# Altium integrated library NSC ADC.IntLib: 208 symbols (part 3 of 7)
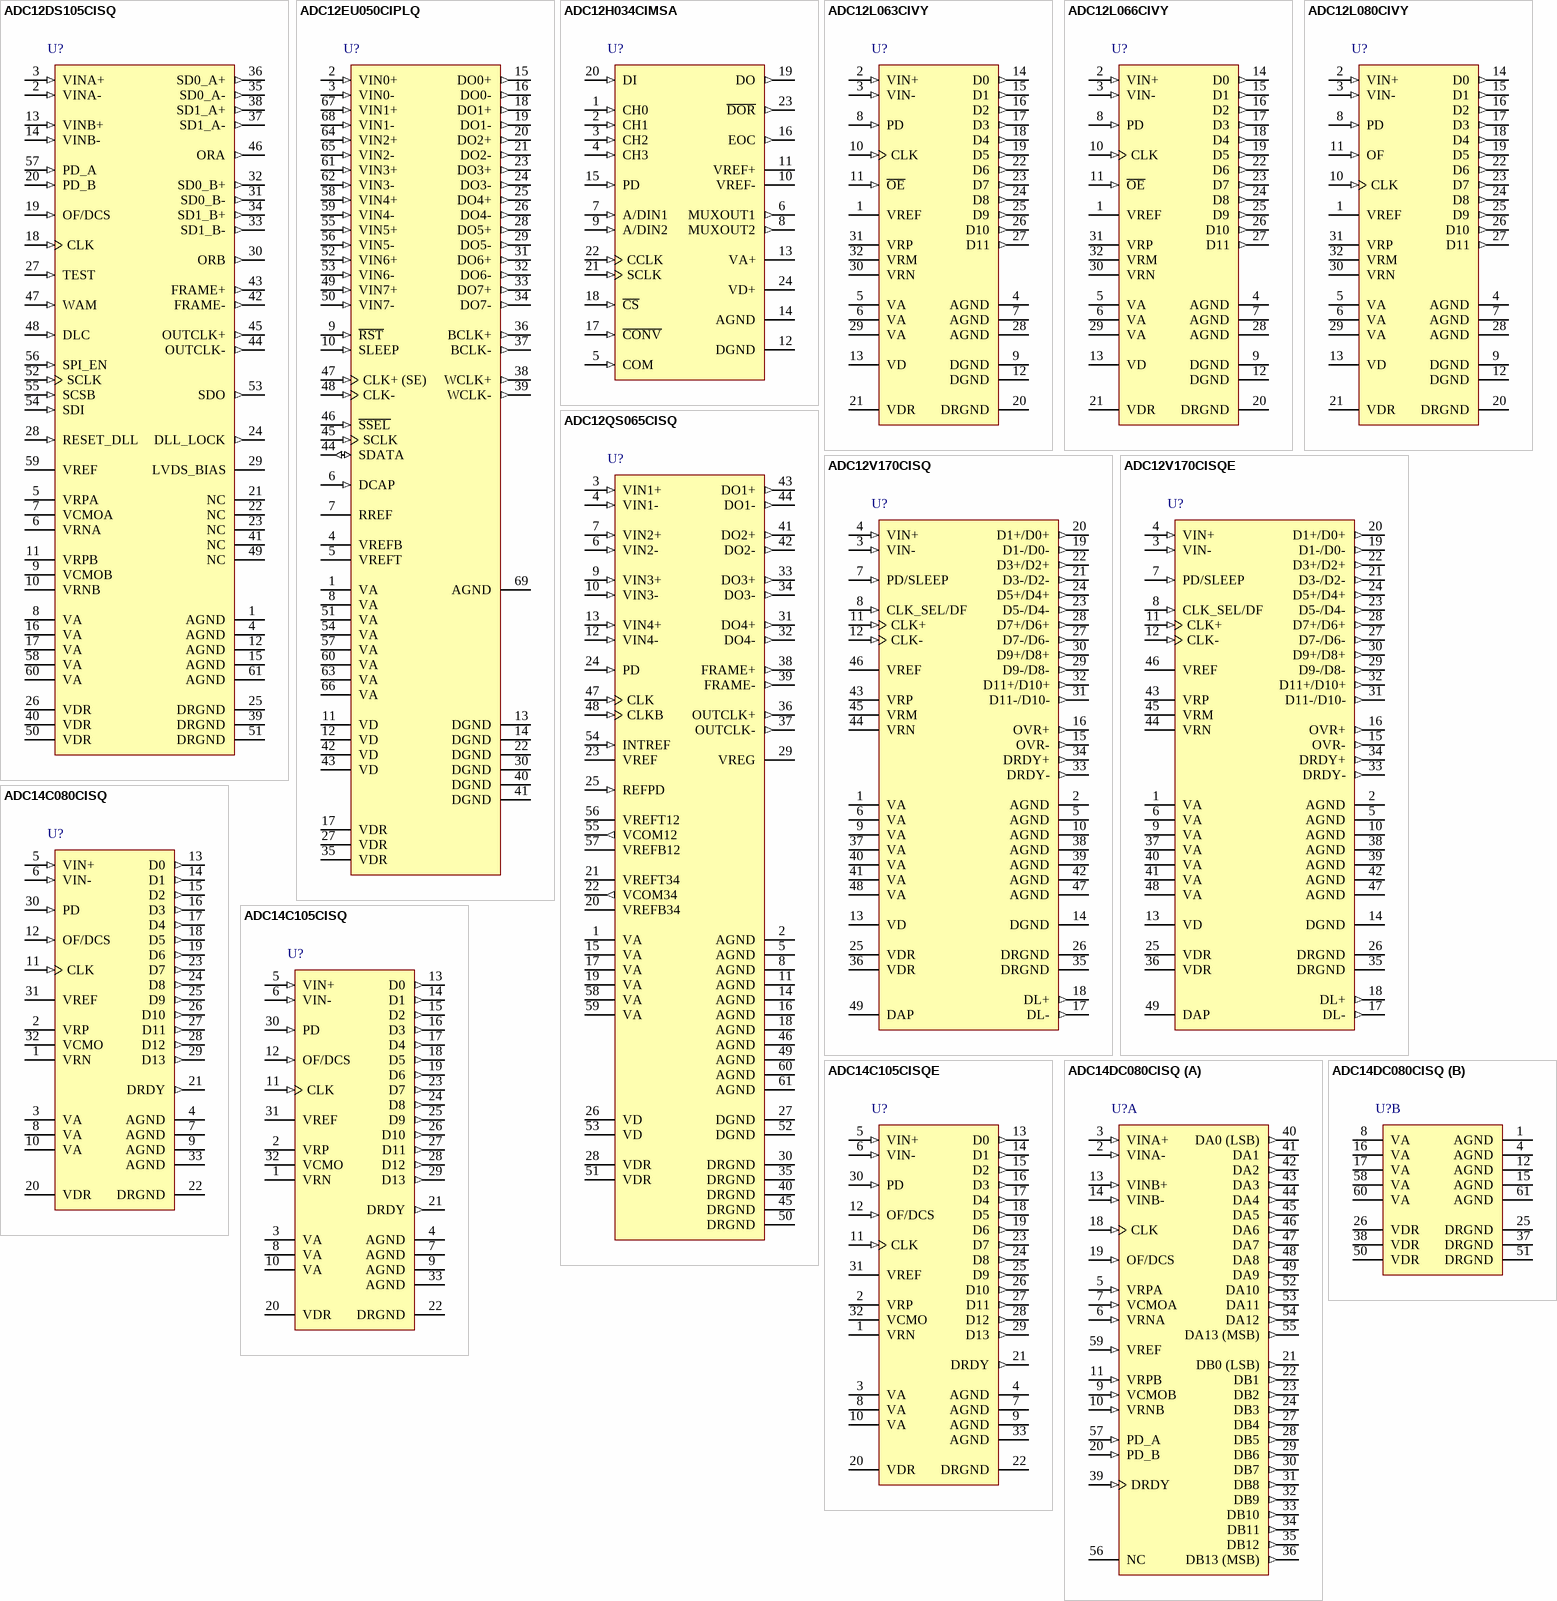
[diagram p19: symbols ADC12DS105CISQ to ADC14DC080CISQ]

## ADC12L063CIVY
designator U?
12-Bit, 62 MSPS, 354mW A/D Converter with Internal Sample-and-Hold; PartNumber: ADC12L063CIVY; Manufacturer: National Semiconductor; CompType: ADC IC; PackageTopMarking: NSUZXYTT*ADC12L0*63CIVY; PowerWise: N; Published: 4-Dec-2008; DatasheetVersion: Jul-2001; PackageVersion: revE, Dec-1999; PackageReference: VBE32A; Publisher: Altium Limited; PackageDescription: LQFP, JEDEC, Metric, 7 x 7 x 1.4mm, 32 Lead; RoHS: O; PinCount: 32; DigiKeyPartNumber: ADC12L063CIVY-ND; ComponentLink1Description: ADC12L063 Datasheet; ComponentLink1URL: http://www.national.com/ds/AD/ADC12L063.pdf; ComponentLink2Description: ADC12L063 Web Page; ComponentLink2URL: http://www.national.com/pf/AD/ADC12L063.html; ComponentLink3Description: VBE32A Package Page; ComponentLink3URL: http://www.national.com/packaging/folders/vbe32a.html
footprint VBE32A_N (Thin QFP, 32-Leads, Body 7x7mm, Pitch 0.8mm, IPC Medium Density)
footprint VBE32A_L (Thin QFP, 32-Leads, Body 7x7mm, Pitch 0.8mm, IPC High Density)
footprint VBE32A_M (Thin QFP, 32-Leads, Body 7x7mm, Pitch 0.8mm, IPC Low Density)
pins: 1 VREF (power), 2 VIN+ (in), 3 VIN- (in), 4 AGND (power), 5 VA (power), 6 VA (power), 7 AGND (power), 8 PD (in), 9 DGND (power), 10 CLK (in), 11 ~{OE} (in), 12 DGND (power), 13 VD (power), 14 D0 (out), 15 D1 (out), 16 D2 (out), 17 D3 (out), 18 D4 (out), 19 D5 (out), 20 DRGND (power), 21 VDR (power), 22 D6 (out), 23 D7 (out), 24 D8 (out), 25 D9 (out), 26 D10 (out), 27 D11 (out), 28 AGND (power), 29 VA (power), 30 VRN, 31 VRP, 32 VRM

## ADC12L066CIVY
designator U?
12-Bit, 66 MSPS, 450 MHz Bandwidth A/D Converter with Internal Sample-and-Hold; PartNumber: ADC12L066CIVY; Manufacturer: National Semiconductor; CompType: ADC IC; PackageTopMarking: NSUZXYTT*ADC12L0*66CIVY; PowerWise: N; Published: 4-Dec-2008; DatasheetVersion: Mar-2002; PackageVersion: revE, Dec-1999; PackageReference: VBE32A; Publisher: Altium Limited; PackageDescription: LQFP, JEDEC, Metric, 7 x 7 x 1.4mm, 32 Lead; RoHS: Y; PinCount: 32; DigiKeyPartNumber: ADC12L066CIVY-ND; ComponentLink1Description: ADC12L066 Datasheet; ComponentLink1URL: http://www.national.com/ds/AD/ADC12L066.pdf; ComponentLink2Description: ADC12L066 Web Page; ComponentLink2URL: http://www.national.com/pf/AD/ADC12L066.html; ComponentLink3Description: VBE32A Package Page; ComponentLink3URL: http://www.national.com/packaging/folders/vbe32a.html
footprint VBE32A_N (Thin QFP, 32-Leads, Body 7x7mm, Pitch 0.8mm, IPC Medium Density)
footprint VBE32A_L (Thin QFP, 32-Leads, Body 7x7mm, Pitch 0.8mm, IPC High Density)
footprint VBE32A_M (Thin QFP, 32-Leads, Body 7x7mm, Pitch 0.8mm, IPC Low Density)
pins: 1 VREF (power), 2 VIN+ (in), 3 VIN- (in), 4 AGND (power), 5 VA (power), 6 VA (power), 7 AGND (power), 8 PD (in), 9 DGND (power), 10 CLK (in), 11 ~{OE} (in), 12 DGND (power), 13 VD (power), 14 D0 (out), 15 D1 (out), 16 D2 (out), 17 D3 (out), 18 D4 (out), 19 D5 (out), 20 DRGND (power), 21 VDR (power), 22 D6 (out), 23 D7 (out), 24 D8 (out), 25 D9 (out), 26 D10 (out), 27 D11 (out), 28 AGND (power), 29 VA (power), 30 VRN, 31 VRP, 32 VRM

## ADC12L080CIVY
designator U?
12-Bit, 80 MSPS, 450 MHz Bandwidth A/D Converter with Internal Reference; PartNumber: ADC12L080CIVY; Manufacturer: National Semiconductor; CompType: ADC IC; PackageTopMarking: NSUZXYTT*ADC12L0*80CIVY; PowerWise: N; Published: 4-Dec-2008; DatasheetVersion: Oct-2004; PackageVersion: revE, Dec-1999; PackageReference: VBE32A; Publisher: Altium Limited; PackageDescription: LQFP, JEDEC, Metric, 7 x 7 x 1.4mm, 32 Lead; RoHS: Y; PinCount: 32; DigiKeyPartNumber: ADC12L080CIVY-ND; ComponentLink1Description: ADC12L080 Datasheet; ComponentLink1URL: http://www.national.com/ds/AD/ADC12L080.pdf; ComponentLink2Description: ADC12L080 Web Page; ComponentLink2URL: http://www.national.com/pf/AD/ADC12L080.html; ComponentLink3Description: VBE32A Package Page; ComponentLink3URL: http://www.national.com/packaging/folders/vbe32a.html
footprint VBE32A_N (Thin QFP, 32-Leads, Body 7x7mm, Pitch 0.8mm, IPC Medium Density)
footprint VBE32A_L (Thin QFP, 32-Leads, Body 7x7mm, Pitch 0.8mm, IPC High Density)
footprint VBE32A_M (Thin QFP, 32-Leads, Body 7x7mm, Pitch 0.8mm, IPC Low Density)
pins: 1 VREF (power), 2 VIN+ (in), 3 VIN- (in), 4 AGND (power), 5 VA (power), 6 VA (power), 7 AGND (power), 8 PD (in), 9 DGND (power), 10 CLK (in), 11 OF (in), 12 DGND (power), 13 VD (power), 14 D0 (out), 15 D1 (out), 16 D2 (out), 17 D3 (out), 18 D4 (out), 19 D5 (out), 20 DRGND (power), 21 VDR (power), 22 D6 (out), 23 D7 (out), 24 D8 (out), 25 D9 (out), 26 D10 (out), 27 D11 (out), 28 AGND (power), 29 VA (power), 30 VRN, 31 VRP, 32 VRM

## ADC12QS065CISQ
designator U?
Quad 12-Bit 65 MSPS A/D Converter with LVDS Serialized Outputs; PartNumber: ADC12QS065CISQ; Manufacturer: National Semiconductor; CompType: ADC IC; PackageTopMarking: NS*UZXYTT*12QS065*CISQ; PowerWise: Y; Published: 4-Dec-2008; DatasheetVersion: Nov-2006; PackageVersion: revA, Jun-2005; PackageReference: SQA60A; Publisher: Altium Limited; PackageDescription: LLP, Quad, 9 x 9 x 0.8mm, 60 Lead, 0.5mm Pitch, No Pullback; RoHS: Y; PinCount: 60; DigiKeyPartNumber: ADC12QS065CISQCT-ND; ComponentLink1Description: ADC12QS065 Datasheet; ComponentLink1URL: http://www.national.com/ds/AD/ADC12QS065.pdf; ComponentLink2Description: ADC12QS065 Web Page; ComponentLink2URL: http://www.national.com/pf/AD/ADC12QS065.html; ComponentLink3Description: SQA60A Package Page; ComponentLink3URL: http://www.national.com/packaging/folders/sqa60a.html
footprint SQA60A (QFN, 60-Leads, Body 9x9mm, Pitch 0.5mm, NSC Recommended)
pins: 1 VA (power), 2 AGND (power), 3 VIN1+ (in), 4 VIN1- (in), 5 AGND (power), 6 VIN2- (in), 7 VIN2+ (in), 8 AGND (power), 9 VIN3+ (in), 10 VIN3- (in), 11 AGND (power), 12 VIN4- (in), 13 VIN4+ (in), 14 AGND (power), 15 VA (power), 16 AGND (power), 17 VA (power), 18 AGND (power), 19 VA (power), 20 VREFB34 (power), 21 VREFT34 (power), 22 VCOM34 (out), 23 VREF (power), 24 PD (in), 25 REFPD (in), 26 VD (power), 27 DGND (power), 28 VDR (power), 29 VREG, 30 DRGND (power), 31 DO4+ (out), 32 DO4- (out), 33 DO3+ (out), 34 DO3- (out), 35 DRGND (power), 36 OUTCLK+ (out), 37 OUTCLK- (out), 38 FRAME+ (out), 39 FRAME- (out), 40 DRGND (power), 41 DO2+ (out), 42 DO2- (out), 43 DO1+ (out), 44 DO1- (out), 45 DRGND (power), 46 AGND (power), 47 CLK (in), 48 CLKB (in), 49 AGND (power), 50 DRGND (power), 51 VDR (power), 52 DGND (power), 53 VD (power), 54 INTREF (in), 55 VCOM12 (out), 56 VREFT12 (power), 57 VREFB12 (power), 58 VA (power), 59 VA (power), 60 AGND (power), 61 AGND (power)

## ADC12V170CISQ
designator U?
12-Bit, 170 MSPS, 1.1 GHz Bandwidth A/D Converter with LVDS Outputs; PartNumber: ADC12V170CISQ; Manufacturer: National Semiconductor; CompType: ADC IC; PackageTopMarking: NS*UZXYTT*ADC12V170; PowerWise: Y; Published: 4-Dec-2008; DatasheetVersion: May-2007; PackageVersion: revA, May-2003; PackageReference: SQA48A; Publisher: Altium Limited; PackageDescription: LLP, Plastic, Quad, 7 x 7 x 0.8mm Body, 48 Lead, 0.5mm Pitch, No Pullback; RoHS: O; PinCount: 48; DigiKeyPartNumber: ADC12V170CISQCT-ND; Code_JEDEC: MO-220-WKKD-2; ComponentLink1Description: ADC12V170 Datasheet; ComponentLink1URL: http://www.national.com/ds/AD/ADC12V170.pdf; ComponentLink2Description: ADC12V170 Web Page; ComponentLink2URL: http://www.national.com/pf/AD/ADC12V170.html; ComponentLink3Description: SQA48A Package Page; ComponentLink3URL: http://www.national.com/packaging/folders/sqa48a.html
footprint SQA48A (QFN, 48-Leads, Body 7x7mm, Pitch 0.5mm, NSC Recommended)
pins: 1 VA (power), 2 AGND (power), 3 VIN- (in), 4 VIN+ (in), 5 AGND (power), 6 VA (power), 7 PD/SLEEP (in), 8 CLK_SEL/DF (in), 9 VA (power), 10 AGND (power), 11 CLK+ (in), 12 CLK- (in), 13 VD (power), 14 DGND (power), 15 OVR- (out), 16 OVR+ (out), 17 DL- (out), 18 DL+ (out), 19 D1-/D0- (out), 20 D1+/D0+ (out), 21 D3-/D2- (out), 22 D3+/D2+ (out), 23 D5-/D4- (out), 24 D5+/D4+ (out), 25 VDR (power), 26 DRGND (power), 27 D7-/D6- (out), 28 D7+/D6+ (out), 29 D9-/D8- (out), 30 D9+/D8+ (out), 31 D11-/D10- (out), 32 D11+/D10+ (out), 33 DRDY- (out), 34 DRDY+ (out), 35 DRGND (power), 36 VDR (power), 37 VA (power), 38 AGND (power), 39 AGND (power), 40 VA (power), 41 VA (power), 42 AGND (power), 43 VRP, 44 VRN, 45 VRM, 46 VREF (power), 47 AGND (power), 48 VA (power), 49 DAP (power)

## ADC12V170CISQE
designator U?
12-Bit, 170 MSPS, 1.1 GHz Bandwidth A/D Converter with LVDS Outputs; PartNumber: ADC12V170CISQE; Manufacturer: National Semiconductor; CompType: ADC IC; PackageTopMarking: NS*UZXYTT*12V170SQE; Published: 4-Dec-2008; DatasheetVersion: Aug-2007; PackageVersion: revA, May-2003; PackageReference: SQA48A; Publisher: Altium Limited; PackageDescription: LLP, Plastic, Quad, 7 x 7 x 0.8mm Body, 48 Lead, 0.5mm Pitch, No Pullback; RoHS: N; PinCount: 48; DigiKeyPartNumber: ADC12V170CISQE-ND; Code_JEDEC: MO-220-WKKD-2; ComponentLink1Description: ADC12V170 Datasheet; ComponentLink1URL: http://www.national.com/ds/AD/ADC12V170.pdf; ComponentLink2Description: ADC12V170 Web Page; ComponentLink2URL: http://www.national.com/pf/AD/ADC12V170.html; ComponentLink3Description: SQA48A Package Page; ComponentLink3URL: http://www.national.com/packaging/folders/sqa48a.html
footprint SQA48A (QFN, 48-Leads, Body 7x7mm, Pitch 0.5mm, NSC Recommended)
pins: 1 VA (power), 2 AGND (power), 3 VIN- (in), 4 VIN+ (in), 5 AGND (power), 6 VA (power), 7 PD/SLEEP (in), 8 CLK_SEL/DF (in), 9 VA (power), 10 AGND (power), 11 CLK+ (in), 12 CLK- (in), 13 VD (power), 14 DGND (power), 15 OVR- (out), 16 OVR+ (out), 17 DL- (out), 18 DL+ (out), 19 D1-/D0- (out), 20 D1+/D0+ (out), 21 D3-/D2- (out), 22 D3+/D2+ (out), 23 D5-/D4- (out), 24 D5+/D4+ (out), 25 VDR (power), 26 DRGND (power), 27 D7-/D6- (out), 28 D7+/D6+ (out), 29 D9-/D8- (out), 30 D9+/D8+ (out), 31 D11-/D10- (out), 32 D11+/D10+ (out), 33 DRDY- (out), 34 DRDY+ (out), 35 DRGND (power), 36 VDR (power), 37 VA (power), 38 AGND (power), 39 AGND (power), 40 VA (power), 41 VA (power), 42 AGND (power), 43 VRP, 44 VRN, 45 VRM, 46 VREF (power), 47 AGND (power), 48 VA (power), 49 DAP (power)

## ADC14C080CISQ
designator U?
14-Bit, 65/80 MSPS A/D Converter; PartNumber: ADC14C080CISQ; Manufacturer: National Semiconductor; CompType: ADC IC; PackageTopMarking: NS*UZXYTT*14C080; PowerWise: Y; Published: 4-Dec-2008; DatasheetVersion: Aug-2007; PackageVersion: revA, Jul-2004; PackageReference: SQA32A; Publisher: Altium Limited; PackageDescription: LLP, Quad, 5 x 5 x 0.8mm, 32 Lead, 0.5mm Pitch, No Pullback 3.1 x 3.1 Exposed Pad; RoHS: Y; PinCount: 32; DigiKeyPartNumber: ADC14C080CISQ-ND; ComponentLink1Description: ADC14C080 Datasheet; ComponentLink1URL: http://www.national.com/ds/AD/ADC14C080.pdf; ComponentLink2Description: ADC14C080 Web Page; ComponentLink2URL: http://www.national.com/pf/AD/ADC14C080.html; ComponentLink3Description: SQA32A Package Page; ComponentLink3URL: http://www.national.com/packaging/folders/sqa32a.html
footprint SQA32A (QFN, 32-Leads, Body 5x5mm, Pitch 0.5mm, NSC Recommended)
pins: 1 VRN, 2 VRP, 3 VA (power), 4 AGND (power), 5 VIN+ (in), 6 VIN- (in), 7 AGND (power), 8 VA (power), 9 AGND (power), 10 VA (power), 11 CLK (in), 12 OF/DCS (in), 13 D0 (out), 14 D1 (out), 15 D2 (out), 16 D3 (out), 17 D4 (out), 18 D5 (out), 19 D6 (out), 20 VDR (power), 21 DRDY (out), 22 DRGND (power), 23 D7 (out), 24 D8 (out), 25 D9 (out), 26 D10 (out), 27 D11 (out), 28 D12 (out), 29 D13 (out), 30 PD (in), 31 VREF (power), 32 VCMO, 33 AGND (power)

## ADC14C105CISQ
designator U?
14-Bit, 105 MSPS A/D Converter; PartNumber: ADC14C105CISQ; Manufacturer: National Semiconductor; CompType: ADC IC; PackageTopMarking: NS*UZXYTT*14C105; PowerWise: Y; Published: 4-Dec-2008; DatasheetVersion: Jul-2007; PackageVersion: revA, Jul-2004; PackageReference: SQA32A; Publisher: Altium Limited; PackageDescription: LLP, Quad, 5 x 5 x 0.8mm, 32 Lead, 0.5mm Pitch, No Pullback 3.1 x 3.1 Exposed Pad; RoHS: Y; PinCount: 32; DigiKeyPartNumber: ADC14C105CISQ-ND; ComponentLink1Description: ADC14C105 Datasheet; ComponentLink1URL: http://www.national.com/ds/AD/ADC14C105.pdf; ComponentLink2Description: ADC14C105 Web Page; ComponentLink2URL: http://www.national.com/pf/AD/ADC14C105.html; ComponentLink3Description: SQA32A Package Page; ComponentLink3URL: http://www.national.com/packaging/folders/sqa32a.html
footprint SQA32A (QFN, 32-Leads, Body 5x5mm, Pitch 0.5mm, NSC Recommended)
pins: 1 VRN, 2 VRP, 3 VA (power), 4 AGND (power), 5 VIN+ (in), 6 VIN- (in), 7 AGND (power), 8 VA (power), 9 AGND (power), 10 VA (power), 11 CLK (in), 12 OF/DCS (in), 13 D0 (out), 14 D1 (out), 15 D2 (out), 16 D3 (out), 17 D4 (out), 18 D5 (out), 19 D6 (out), 20 VDR (power), 21 DRDY (out), 22 DRGND (power), 23 D7 (out), 24 D8 (out), 25 D9 (out), 26 D10 (out), 27 D11 (out), 28 D12 (out), 29 D13 (out), 30 PD (in), 31 VREF (power), 32 VCMO, 33 AGND (power)

## ADC14C105CISQE
designator U?
14-Bit, 105 MSPS A/D Converter; PartNumber: ADC14C105CISQE; Manufacturer: National Semiconductor; CompType: ADC IC; PackageTopMarking: NS*UZXYTT*14C105E; Published: 4-Dec-2008; DatasheetVersion: Aug-2007; PackageVersion: revA, Jul-2004; PackageReference: SQA32A; Publisher: Altium Limited; PackageDescription: LLP, Quad, 5 x 5 x 0.8mm, 32 Lead, 0.5mm Pitch, No Pullback 3.1 x 3.1 Exposed Pad; RoHS: Y; PinCount: 32; DigiKeyPartNumber: ADC14C105CISQECT-ND; ComponentLink1Description: ADC14C105 Datasheet; ComponentLink1URL: http://www.national.com/ds/AD/ADC14C105.pdf; ComponentLink2Description: ADC14C105 Web Page; ComponentLink2URL: http://www.national.com/pf/AD/ADC14C105.html; ComponentLink3Description: SQA32A Package Page; ComponentLink3URL: http://www.national.com/packaging/folders/sqa32a.html
footprint SQA32A (QFN, 32-Leads, Body 5x5mm, Pitch 0.5mm, NSC Recommended)
pins: 1 VRN, 2 VRP, 3 VA (power), 4 AGND (power), 5 VIN+ (in), 6 VIN- (in), 7 AGND (power), 8 VA (power), 9 AGND (power), 10 VA (power), 11 CLK (in), 12 OF/DCS (in), 13 D0 (out), 14 D1 (out), 15 D2 (out), 16 D3 (out), 17 D4 (out), 18 D5 (out), 19 D6 (out), 20 VDR (power), 21 DRDY (out), 22 DRGND (power), 23 D7 (out), 24 D8 (out), 25 D9 (out), 26 D10 (out), 27 D11 (out), 28 D12 (out), 29 D13 (out), 30 PD (in), 31 VREF (power), 32 VCMO, 33 AGND (power)

## ADC14DC080CISQ
designator U?
Dual 14-Bit, 80 MSPS A/D Converter with CMOS Outputs; PartNumber: ADC14DC080CISQ; Manufacturer: National Semiconductor; CompType: ADC IC; PackageTopMarking: NS*UZXYTT*14DC080*CISQ; PowerWise: Y; Published: 29-May-2009; DatasheetVersion: Nov-2008; PackageVersion: revA, Jun-2005; PackageReference: SQA60A; Publisher: Altium Limited; PackageDescription: LLP, Quad, 9 x 9 x 0.8mm, 60 Lead, 0.5mm Pitch, No Pullback; RoHS: O; PinCount: 60; DigiKeyPartNumber: ADC14DC080CISQECT-ND; ComponentLink1Description: ADC14DC080 Datasheet; ComponentLink1URL: http://www.national.com/ds/AD/ADC14DC080.pdf; ComponentLink2Description: ADC14DC080 Web Page; ComponentLink2URL: http://www.national.com/pf/AD/ADC14DC080.html; ComponentLink3Description: SQA60A Package Page; ComponentLink3URL: http://www.national.com/packaging/folders/sqa60a.html
footprint SQA60A (QFN, 60-Leads, Body 9x9mm, Pitch 0.5mm, NSC Recommended)
part A pins: 2 VINA- (in), 3 VINA+ (in), 5 VRPA (in), 6 VRNA (in), 7 VCMOA (in), 9 VCMOB (in), 10 VRNB (in), 11 VRPB (in), 13 VINB+ (in), 14 VINB- (in), 18 CLK (in), 19 OF/DCS (in), 20 PD_B (in), 21 DB0 (LSB) (out), 22 DB1 (out), 23 DB2 (out), 24 DB3 (out), 27 DB4 (out), 28 DB5 (out), 29 DB6 (out), 30 DB7 (out), 31 DB8 (out), 32 DB9 (out), 33 DB10 (out), 34 DB11 (out), 35 DB12 (out), 36 DB13 (MSB) (out), 39 DRDY (in), 40 DA0 (LSB) (out), 41 DA1 (out), 42 DA2 (out), 43 DA3 (out), 44 DA4 (out), 45 DA5 (out), 46 DA6 (out), 47 DA7 (out), 48 DA8 (out), 49 DA9 (out), 52 DA10 (out), 53 DA11 (out), 54 DA12 (out), 55 DA13 (MSB) (out), 56 NC, 57 PD_A (in), 59 VREF (in)
part B pins: 1 AGND (power), 4 AGND (power), 8 VA (power), 12 AGND (power), 15 AGND (power), 16 VA (power), 17 VA (power), 25 DRGND (power), 26 VDR (power), 37 DRGND (power), 38 VDR (power), 50 VDR (power), 51 DRGND (power), 58 VA (power), 60 VA (power), 61 AGND (power)

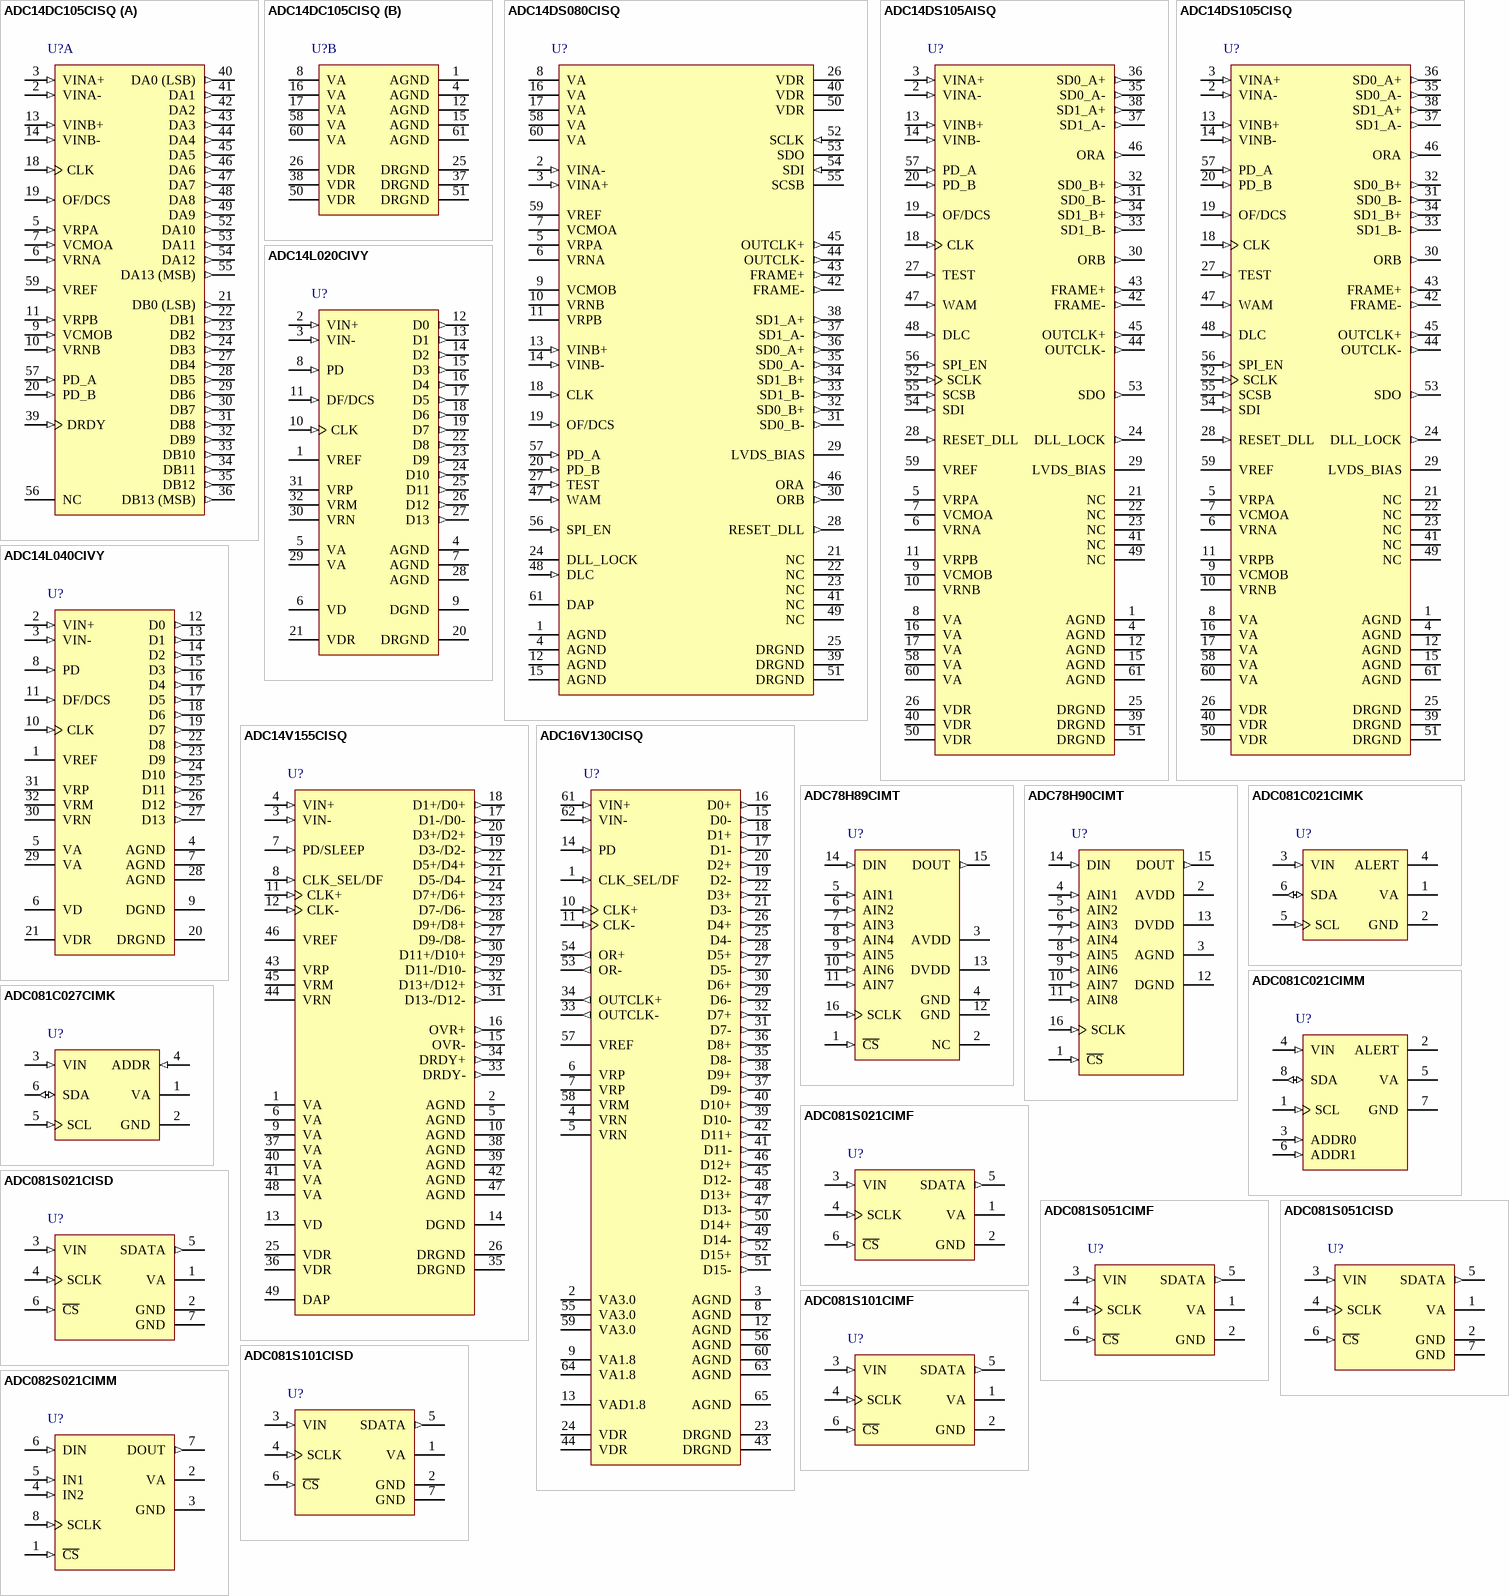
[diagram p8: symbols ADC14DC105CISQ to ADC082S021CIMM]

## ADC14DC105CISQ
designator U?
Dual 14-Bit, 105 MSPS A/D Converter with CMOS Outputs; PartNumber: ADC14DC105CISQ; Manufacturer: National Semiconductor; CompType: ADC IC; PackageTopMarking: NS*UZXYTT*14DC105*CISQ; PowerWise: Y; Published: 29-May-2009; DatasheetVersion: Oct-2008; PackageVersion: revA, Jun-2005; PackageReference: SQA60A; Publisher: Altium Limited; PackageDescription: LLP, Quad, 9 x 9 x 0.8mm, 60 Lead, 0.5mm Pitch, No Pullback; RoHS: O; PinCount: 60; DigiKeyPartNumber: ADC14DC105CISQ-ND; ComponentLink1Description: ADC14DC105 Datasheet; ComponentLink1URL: http://www.national.com/ds/AD/ADC14DC105.pdf; ComponentLink2Description: ADC14DC105 Web Page; ComponentLink2URL: http://www.national.com/pf/AD/ADC14DC105.html; ComponentLink3Description: SQA60A Package Page; ComponentLink3URL: http://www.national.com/packaging/folders/sqa60a.html
footprint SQA60A (QFN, 60-Leads, Body 9x9mm, Pitch 0.5mm, NSC Recommended)
part A pins: 2 VINA- (in), 3 VINA+ (in), 5 VRPA (in), 6 VRNA (in), 7 VCMOA (in), 9 VCMOB (in), 10 VRNB (in), 11 VRPB (in), 13 VINB+ (in), 14 VINB- (in), 18 CLK (in), 19 OF/DCS (in), 20 PD_B (in), 21 DB0 (LSB) (out), 22 DB1 (out), 23 DB2 (out), 24 DB3 (out), 27 DB4 (out), 28 DB5 (out), 29 DB6 (out), 30 DB7 (out), 31 DB8 (out), 32 DB9 (out), 33 DB10 (out), 34 DB11 (out), 35 DB12 (out), 36 DB13 (MSB) (out), 39 DRDY (in), 40 DA0 (LSB) (out), 41 DA1 (out), 42 DA2 (out), 43 DA3 (out), 44 DA4 (out), 45 DA5 (out), 46 DA6 (out), 47 DA7 (out), 48 DA8 (out), 49 DA9 (out), 52 DA10 (out), 53 DA11 (out), 54 DA12 (out), 55 DA13 (MSB) (out), 56 NC, 57 PD_A (in), 59 VREF (in)
part B pins: 1 AGND (power), 4 AGND (power), 8 VA (power), 12 AGND (power), 15 AGND (power), 16 VA (power), 17 VA (power), 25 DRGND (power), 26 VDR (power), 37 DRGND (power), 38 VDR (power), 50 VDR (power), 51 DRGND (power), 58 VA (power), 60 VA (power), 61 AGND (power)

## ADC14DS080CISQ
designator U?
Dual 14-Bit, 80 MSPS A/D Converter with Serial LVDS Outputs; PartNumber: ADC14DS080CISQ; Manufacturer: National Semiconductor; CompType: ADC IC; PackageTopMarking: NS*UZXYTT*14DS080; PowerWise: Y; Published: 4-Dec-2008; DatasheetVersion: Dec-2007; PackageVersion: revA, Jun-2005; PackageReference: SQA60A; Publisher: Altium Limited; PackageDescription: LLP, Quad, 9 x 9 x 0.8mm, 60 Lead, 0.5mm Pitch, No Pullback; RoHS: Y; PinCount: 60; DigiKeyPartNumber: ADC14DS080CISQCT-ND; ComponentLink1Description: ADC14DS080 Datasheet; ComponentLink1URL: http://www.national.com/ds/AD/ADC14DS080.pdf; ComponentLink2Description: ADC14DS080 Web Page; ComponentLink2URL: http://www.national.com/pf/AD/ADC14DS080.html; ComponentLink3Description: SQA60A Package Drawing; ComponentLink3URL: http://www.national.com/packaging/folders/sqa60a.html
footprint SQA60A (QFN, 60-Leads, Body 9x9mm, Pitch 0.5mm, NSC Recommended)
pins: 1 AGND (power), 2 VINA- (in), 3 VINA+ (in), 4 AGND (power), 5 VRPA, 6 VRNA, 7 VCMOA, 8 VA (power), 9 VCMOB, 10 VRNB, 11 VRPB, 12 AGND (power), 13 VINB+ (in), 14 VINB- (in), 15 AGND (power), 16 VA (power), 17 VA (power), 18 CLK (in), 19 OF/DCS (in), 20 PD_B (in), 21 NC, 22 NC, 23 NC, 24 DLL_LOCK, 25 DRGND (power), 26 VDR, 27 TEST (in), 28 RESET_DLL (out), 29 LVDS_BIAS, 30 ORB (out), 31 SD0_B- (out), 32 SD0_B+ (out), 33 SD1_B- (out), 34 SD1_B+ (out), 35 SD0_A- (out), 36 SD0_A+ (out), 37 SD1_A- (out), 38 SD1_A+ (out), 39 DRGND (power), 40 VDR, 41 NC, 42 FRAME- (out), 43 FRAME+ (out), 44 OUTCLK- (out), 45 OUTCLK+ (out), 46 ORA (out), 47 WAM (in), 48 DLC (in), 49 NC, 50 VDR, 51 DRGND (power), 52 SCLK (in), 53 SDO (hiz), 54 SDI (in), 55 SCSB, 56 SPI_EN (in), 57 PD_A (in), 58 VA (power), 59 VREF, 60 VA (power), 61 DAP

## ADC14DS105AISQ
designator U?
Dual 14-Bit, 105 MSPS A/D Converter with Serial LVDS Outputs; PartNumber: ADC14DS105AISQ; Manufacturer: National Semiconductor; CompType: ADC IC; PackageTopMarking: NS*UZXYTT*14DS105A; PowerWise: N; Published: 4-Dec-2008; DatasheetVersion: Dec-2007; PackageVersion: revA, Jun-2005; PackageReference: SQA60A; Publisher: Altium Limited; PackageDescription: LLP, Quad, 9 x 9 x 0.8mm, 60 Lead, 0.5mm Pitch, No Pullback; RoHS: Y; PinCount: 60; DigiKeyPartNumber: ADC14DS105AISQ-ND; ComponentLink1Description: ADC14DS105 Datasheet; ComponentLink1URL: http://www.national.com/ds/AD/ADC14DS105.pdf; ComponentLink2Description: ADC14DS105 Web Page; ComponentLink2URL: http://www.national.com/pf/AD/ADC14DS105.html; ComponentLink3Description: SQA60A Package Page; ComponentLink3URL: http://www.national.com/packaging/folders/sqa60a.html
footprint SQA60A (QFN, 60-Leads, Body 9x9mm, Pitch 0.5mm, NSC Recommended)
pins: 1 AGND (power), 2 VINA- (in), 3 VINA+ (in), 4 AGND (power), 5 VRPA, 6 VRNA, 7 VCMOA, 8 VA (power), 9 VCMOB, 10 VRNB, 11 VRPB, 12 AGND (power), 13 VINB+ (in), 14 VINB- (in), 15 AGND (power), 16 VA (power), 17 VA (power), 18 CLK (in), 19 OF/DCS (in), 20 PD_B (in), 21 NC, 22 NC, 23 NC, 24 DLL_LOCK (out), 25 DRGND (power), 26 VDR (power), 27 TEST (in), 28 RESET_DLL (in), 29 LVDS_BIAS, 30 ORB (out), 31 SD0_B- (out), 32 SD0_B+ (out), 33 SD1_B- (out), 34 SD1_B+ (out), 35 SD0_A- (out), 36 SD0_A+ (out), 37 SD1_A- (out), 38 SD1_A+ (out), 39 DRGND (power), 40 VDR (power), 41 NC, 42 FRAME- (out), 43 FRAME+ (out), 44 OUTCLK- (out), 45 OUTCLK+ (out), 46 ORA (out), 47 WAM (in), 48 DLC (in), 49 NC, 50 VDR (power), 51 DRGND (power), 52 SCLK (in), 53 SDO (out), 54 SDI (in), 55 SCSB (in), 56 SPI_EN (in), 57 PD_A (in), 58 VA (power), 59 VREF (power), 60 VA (power), 61 AGND (power)

## ADC14DS105CISQ
designator U?
Dual 14-Bit, 105 MSPS A/D Converter with Serial LVDS Outputs; PartNumber: ADC14DS105CISQ; Manufacturer: National Semiconductor; CompType: ADC IC; PackageTopMarking: NS*UZXYTT*14DS105C; PowerWise: Y; Published: 4-Dec-2008; DatasheetVersion: Dec-2007; PackageVersion: revA, Jun-2005; PackageReference: SQA60A; Publisher: Altium Limited; PackageDescription: LLP, Quad, 9 x 9 x 0.8mm, 60 Lead, 0.5mm Pitch, No Pullback; RoHS: O; PinCount: 60; DigiKeyPartNumber: ADC14DS105CISQ-ND; ComponentLink1Description: ADC14DS105 Datasheet; ComponentLink1URL: http://www.national.com/ds/AD/ADC14DS105.pdf; ComponentLink2Description: ADC14DS105 Web Page; ComponentLink2URL: http://www.national.com/pf/AD/ADC14DS105.html; ComponentLink3Description: SQA60A Package Page; ComponentLink3URL: http://www.national.com/packaging/folders/sqa60a.html
footprint SQA60A (QFN, 60-Leads, Body 9x9mm, Pitch 0.5mm, NSC Recommended)
pins: 1 AGND (power), 2 VINA- (in), 3 VINA+ (in), 4 AGND (power), 5 VRPA, 6 VRNA, 7 VCMOA, 8 VA (power), 9 VCMOB, 10 VRNB, 11 VRPB, 12 AGND (power), 13 VINB+ (in), 14 VINB- (in), 15 AGND (power), 16 VA (power), 17 VA (power), 18 CLK (in), 19 OF/DCS (in), 20 PD_B (in), 21 NC, 22 NC, 23 NC, 24 DLL_LOCK (out), 25 DRGND (power), 26 VDR (power), 27 TEST (in), 28 RESET_DLL (in), 29 LVDS_BIAS, 30 ORB (out), 31 SD0_B- (out), 32 SD0_B+ (out), 33 SD1_B- (out), 34 SD1_B+ (out), 35 SD0_A- (out), 36 SD0_A+ (out), 37 SD1_A- (out), 38 SD1_A+ (out), 39 DRGND (power), 40 VDR (power), 41 NC, 42 FRAME- (out), 43 FRAME+ (out), 44 OUTCLK- (out), 45 OUTCLK+ (out), 46 ORA (out), 47 WAM (in), 48 DLC (in), 49 NC, 50 VDR (power), 51 DRGND (power), 52 SCLK (in), 53 SDO (out), 54 SDI (in), 55 SCSB (in), 56 SPI_EN (in), 57 PD_A (in), 58 VA (power), 59 VREF (power), 60 VA (power), 61 AGND (power)

## ADC14L020CIVY
designator U?
14-Bit, 20 MSPS, 150 mW A/D Converter; PartNumber: ADC14L020CIVY; Manufacturer: National Semiconductor; CompType: ADC IC; PackageTopMarking: NSUZXYTT*ADC14L0*20CIVY; PowerWise: Y; Published: 4-Dec-2008; DatasheetVersion: Sep-2005; PackageVersion: revE, Dec-1999; PackageReference: VBE32A; Publisher: Altium Limited; PackageDescription: LQFP, JEDEC, Metric, 7 x 7 x 1.4mm, 32 Lead; RoHS: Y; PinCount: 32; DigiKeyPartNumber: ADC14L020CIVY-ND; ComponentLink1Description: ADC14L020 Datasheet; ComponentLink1URL: http://www.national.com/ds/AD/ADC14L020.pdf; ComponentLink2Description: ADC14L020 Web Page; ComponentLink2URL: http://www.national.com/pf/AD/ADC14L020.html; ComponentLink3Description: VBE32A Package Page; ComponentLink3URL: http://www.national.com/packaging/folders/vbe32a.html
footprint VBE32A_N (Thin QFP, 32-Leads, Body 7x7mm, Pitch 0.8mm, IPC Medium Density)
footprint VBE32A_L (Thin QFP, 32-Leads, Body 7x7mm, Pitch 0.8mm, IPC High Density)
footprint VBE32A_M (Thin QFP, 32-Leads, Body 7x7mm, Pitch 0.8mm, IPC Low Density)
pins: 1 VREF (power), 2 VIN+ (in), 3 VIN- (in), 4 AGND (power), 5 VA (power), 6 VD (power), 7 AGND (power), 8 PD (in), 9 DGND (power), 10 CLK (in), 11 DF/DCS (in), 12 D0 (out), 13 D1 (out), 14 D2 (out), 15 D3 (out), 16 D4 (out), 17 D5 (out), 18 D6 (out), 19 D7 (out), 20 DRGND (power), 21 VDR (power), 22 D8 (out), 23 D9 (out), 24 D10 (out), 25 D11 (out), 26 D12 (out), 27 D13 (out), 28 AGND (power), 29 VA (power), 30 VRN, 31 VRP, 32 VRM

## ADC14L040CIVY
designator U?
14-Bit, 40 MSPS, 235 mW A/D Converter; PartNumber: ADC14L040CIVY; Manufacturer: National Semiconductor; CompType: ADC IC; PackageTopMarking: NSUZXYTT*ADC14L0*40CIVY; PowerWise: Y; Published: 4-Dec-2008; DatasheetVersion: Jun-2005; PackageVersion: revE, Dec-1999; PackageReference: VBE32A; Publisher: Altium Limited; PackageDescription: LQFP, JEDEC, Metric, 7 x 7 x 1.4mm, 32 Lead; RoHS: Y; PinCount: 32; DigiKeyPartNumber: ADC14L040CIVY-ND; ComponentLink1Description: ADC14L040 Datasheet; ComponentLink1URL: http://www.national.com/ds/AD/ADC14L040.pdf; ComponentLink2Description: ADC14L040 Web Page; ComponentLink2URL: http://www.national.com/pf/AD/ADC14L040.html; ComponentLink3Description: VBE32A Package Page; ComponentLink3URL: http://www.national.com/packaging/folders/vbe32a.html
footprint VBE32A_N (Thin QFP, 32-Leads, Body 7x7mm, Pitch 0.8mm, IPC Medium Density)
footprint VBE32A_L (Thin QFP, 32-Leads, Body 7x7mm, Pitch 0.8mm, IPC High Density)
footprint VBE32A_M (Thin QFP, 32-Leads, Body 7x7mm, Pitch 0.8mm, IPC Low Density)
pins: 1 VREF (power), 2 VIN+ (in), 3 VIN- (in), 4 AGND (power), 5 VA (power), 6 VD (power), 7 AGND (power), 8 PD (in), 9 DGND (power), 10 CLK (in), 11 DF/DCS (in), 12 D0 (out), 13 D1 (out), 14 D2 (out), 15 D3 (out), 16 D4 (out), 17 D5 (out), 18 D6 (out), 19 D7 (out), 20 DRGND (power), 21 VDR (power), 22 D8 (out), 23 D9 (out), 24 D10 (out), 25 D11 (out), 26 D12 (out), 27 D13 (out), 28 AGND (power), 29 VA (power), 30 VRN, 31 VRP, 32 VRM

## ADC14V155CISQ
designator U?
14-Bit, 155 MSPS, 1.1 GHz Bandwidth A/D Converter with LVDS Outputs; PartNumber: ADC14V155CISQ; Manufacturer: National Semiconductor; CompType: ADC IC; PackageTopMarking: NS*UZXYTT*14V155SQ; PowerWise: Y; Published: 4-Dec-2008; DatasheetVersion: Apr-2007; PackageVersion: revA, May-2003; PackageReference: SQA48A; Publisher: Altium Limited; PackageDescription: LLP, Plastic, Quad, 7 x 7 x 0.8mm Body, 48 Lead, 0.5mm Pitch, No Pullback; RoHS: O; PinCount: 48; DigiKeyPartNumber: ADC14V155CISQCT-ND; Code_JEDEC: MO-220-WKKD-2; ComponentLink1Description: ADC14V155 Datasheet; ComponentLink1URL: http://www.national.com/ds/AD/ADC14V155.pdf; ComponentLink2Description: ADC14V155 Web Page; ComponentLink2URL: http://www.national.com/pf/AD/ADC14V155.html; ComponentLink3Description: SQA48A Package Page; ComponentLink3URL: http://www.national.com/packaging/folders/sqa48a.html
footprint SQA48A (QFN, 48-Leads, Body 7x7mm, Pitch 0.5mm, NSC Recommended)
pins: 1 VA (power), 2 AGND (power), 3 VIN- (in), 4 VIN+ (in), 5 AGND (power), 6 VA (power), 7 PD/SLEEP (in), 8 CLK_SEL/DF (in), 9 VA (power), 10 AGND (power), 11 CLK+ (in), 12 CLK- (in), 13 VD (power), 14 DGND (power), 15 OVR- (out), 16 OVR+ (out), 17 D1-/D0- (out), 18 D1+/D0+ (out), 19 D3-/D2- (out), 20 D3+/D2+ (out), 21 D5-/D4- (out), 22 D5+/D4+ (out), 23 D7-/D6- (out), 24 D7+/D6+ (out), 25 VDR (power), 26 DRGND (power), 27 D9-/D8- (out), 28 D9+/D8+ (out), 29 D11-/D10- (out), 30 D11+/D10+ (out), 31 D13-/D12- (out), 32 D13+/D12+ (out), 33 DRDY- (out), 34 DRDY+ (out), 35 DRGND (power), 36 VDR (power), 37 VA (power), 38 AGND (power), 39 AGND (power), 40 VA (power), 41 VA (power), 42 AGND (power), 43 VRP, 44 VRN, 45 VRM, 46 VREF (power), 47 AGND (power), 48 VA (power), 49 DAP (power)

## ADC16V130CISQ
designator U?
16-Bit, 130 MSPS A/D Converter with LVDS Outputs; PartNumber: ADC16V130CISQ; Manufacturer: National Semiconductor; CompType: ADC IC; PackageTopMarking: NS*UZXYTT*ADC16V130; PowerWise: Y; Published: 4-Dec-2008; DatasheetVersion: Nov-2008; PackageVersion: revA, Apr-2006; PackageReference: SQA64A; Publisher: Altium Limited; PackageDescription: LLP, Quad, 9 x 9 x 0.8mm, 64 Lead, 0.5mm Pitch, No Pullback; RoHS: Y; PinCount: 64; DigiKeyPartNumber: ADC16V130CISQ-ND; ComponentLink1Description: ADC16V130 Datasheet; ComponentLink1URL: http://www.national.com/ds/AD/ADC16V130.pdf; ComponentLink2Description: ADC16V130 Web Page; ComponentLink2URL: http://www.national.com/pf/AD/ADC16V130.html; ComponentLink3Description: SQA64A Package Drawing; ComponentLink3URL: http://www.national.com/packaging/folders/sqa64a.html
footprint SQA64A (QFN, 64-Leads, Body 9x9mm, Pitch 0.5mm, NSC Recommended)
pins: 1 CLK_SEL/DF (in), 2 VA3.0 (power), 3 AGND (power), 4 VRN, 5 VRN, 6 VRP, 7 VRP, 8 AGND (power), 9 VA1.8 (power), 10 CLK+ (in), 11 CLK- (in), 12 AGND (power), 13 VAD1.8 (power), 14 PD (in), 15 D0- (out), 16 D0+ (out), 17 D1- (out), 18 D1+ (out), 19 D2- (out), 20 D2+ (out), 21 D3- (out), 22 D3+ (out), 23 DRGND (power), 24 VDR (power), 25 D4- (out), 26 D4+ (out), 27 D5- (out), 28 D5+ (out), 29 D6- (out), 30 D6+ (out), 31 D7- (out), 32 D7+ (out), 33 OUTCLK- (out), 34 OUTCLK+ (out), 35 D8- (out), 36 D8+ (out), 37 D9- (out), 38 D9+ (out), 39 D10- (out), 40 D10+ (out), 41 D11- (out), 42 D11+ (out), 43 DRGND (power), 44 VDR (power), 45 D12- (out), 46 D12+ (out), 47 D13- (out), 48 D13+ (out), 49 D14- (out), 50 D14+ (out), 51 D15- (out), 52 D15+ (out), 53 OR- (out), 54 OR+ (out), 55 VA3.0 (power), 56 AGND (power), 57 VREF (power), 58 VRM, 59 VA3.0 (power), 60 AGND (power), 61 VIN+ (in), 62 VIN- (in), 63 AGND (power), 64 VA1.8 (power), 65 AGND (power)

## ADC78H89CIMT
designator U?
7-Channel, 500 KSPS, 12-Bit A/D Converter; PartNumber: ADC78H89CIMT; Manufacturer: National Semiconductor; CompType: ADC IC; PackageTopMarking: NSUZXYTT*78H89*CIMT; PowerWise: Y; Published: 4-Dec-2008; DatasheetVersion: Apr-2003; PackageVersion: revD, Jun-2003; PackageReference: MTC16; Publisher: Altium Limited; PackageDescription: Molded TSSOP, Jedec, 5 x 4.4 x 0.9mm Body, 16 Lead, 0.65mm Pitch; RoHS: O; PinCount: 16; DigiKeyPartNumber: ADC78H89CIMT-ND; Code_JEDEC: MO-153-AB; ComponentLink1Description: ADC78H89 Datasheet; ComponentLink1URL: http://www.national.com/ds/AD/ADC78H89.pdf; ComponentLink2Description: ADC78H89 Web Page; ComponentLink2URL: http://www.national.com/pf/AD/ADC78H89.html; ComponentLink3Description: MTC16 Package Page; ComponentLink3URL: http://www.national.com/packaging/folders/mtc16.html
footprint MTC16_N (TSOP, 16-Leads, Body 5x4.4mm, Pitch 0.65mm, IPC Medium Density)
footprint MTC16_L (TSOP, 16-Leads, Body 5x4.4mm, Pitch 0.65mm, IPC High Density)
footprint MTC16_M (TSOP, 16-Leads, Body 5x4.4mm, Pitch 0.65mm, IPC Low Density)
pins: 1 ~{CS} (in), 2 NC, 3 AVDD (power), 4 GND (power), 5 AIN1 (in), 6 AIN2 (in), 7 AIN3 (in), 8 AIN4 (in), 9 AIN5 (in), 10 AIN6 (in), 11 AIN7 (in), 12 GND (power), 13 DVDD (power), 14 DIN (in), 15 DOUT (out), 16 SCLK (in)

## ADC78H90CIMT
designator U?
8-Channel, 500 KSPS, 12-Bit A/D Converter; PartNumber: ADC78H90CIMT; Manufacturer: National Semiconductor; CompType: ADC IC; PackageTopMarking: NSUZXYTT*78H90*CIMT; PowerWise: Y; Published: 4-Dec-2008; DatasheetVersion: Nov-2003; PackageVersion: revD, Jun-2003; PackageReference: MTC16; Publisher: Altium Limited; PackageDescription: Molded TSSOP, Jedec, 5 x 4.4 x 0.9mm Body, 16 Lead, 0.65mm Pitch; RoHS: O; PinCount: 16; DigiKeyPartNumber: ADC78H90CIMT-ND; Code_JEDEC: MO-153-AB; ComponentLink1Description: ADC78H90 Datasheet; ComponentLink1URL: http://www.national.com/ds/AD/ADC78H90.pdf; ComponentLink2Description: ADC78H90 Web Page; ComponentLink2URL: http://www.national.com/pf/AD/ADC78H90.html; ComponentLink3Description: MTC16 Package Page; ComponentLink3URL: http://www.national.com/packaging/folders/mtc16.html
footprint MTC16_N (TSOP, 16-Leads, Body 5x4.4mm, Pitch 0.65mm, IPC Medium Density)
footprint MTC16_L (TSOP, 16-Leads, Body 5x4.4mm, Pitch 0.65mm, IPC High Density)
footprint MTC16_M (TSOP, 16-Leads, Body 5x4.4mm, Pitch 0.65mm, IPC Low Density)
pins: 1 ~{CS} (in), 2 AVDD (power), 3 AGND (power), 4 AIN1 (in), 5 AIN2 (in), 6 AIN3 (in), 7 AIN4 (in), 8 AIN5 (in), 9 AIN6 (in), 10 AIN7 (in), 11 AIN8 (in), 12 DGND (power), 13 DVDD (power), 14 DIN (in), 15 DOUT (out), 16 SCLK (in)

## ADC081C021CIMK
designator U?
I2C-Compatible, 8-Bit Analog-to-Digital Converter (ADC) with Alert Pin; PartNumber: ADC081C021CIMK; Manufacturer: National Semiconductor; CompType: ADC IC; PackageTopMarking: X34C*XTT; PowerWise: N; Published: 4-Dec-2008; DatasheetVersion: Feb-2009; PackageVersion: revD, Jul-2005; PackageReference: MK06A; Publisher: Altium Limited; PackageDescription: Molded TSOT, 2.97 x 1.65 x 0.87mm Body, 6 Lead, 0.95mm Pitch; RoHS: Y; PinCount: 6; DigiKeyPartNumber: ADC081C021CIMKCT-ND; Code_JEDEC: MO-193-AA; Code_IPC: SOT26A-6; ComponentLink1Description: ADC081C021 Datasheet; ComponentLink1URL: http://www.national.com/ds/AD/ADC081C021.pdf; ComponentLink2Description: ADC081C021 Web Page; ComponentLink2URL: http://www.national.com/pf/AD/ADC081C021.html; ComponentLink3Description: MK06A Package Page; ComponentLink3URL: http://www.national.com/packaging/folders/mk06a.html
footprint MK06A_N (SOT23, 6-Leads, Body 3.0x1.7mm, Pitch 0.95mm, Lead Span 2.9mm, IPC Medium Density)
footprint MK06A_L (SOT23, 6-Leads, Body 3.0x1.7mm, Pitch 0.95mm, Lead Span 2.9mm, IPC High Density)
footprint MK06A_M (SOT23, 6-Leads, Body 3.0x1.7mm, Pitch 0.95mm, Lead Span 2.9mm, IPC Low Density)
pins: 1 VA (power), 2 GND (power), 3 VIN (in), 4 ALERT (oc), 5 SCL (in), 6 SDA (io)

## ADC081C021CIMM
designator U?
I2C-Compatible, 8-Bit Analog-to-Digital Converter with Alert Pin; PartNumber: ADC081C021CIMM; Manufacturer: National Semiconductor; CompType: ADC IC; PackageTopMarking: ZXTT*X36C; PowerWise: N; Published: 29-May-2009; DatasheetVersion: Feb-2009; PackageVersion: revF, Apr-2008; PackageReference: MUA08A; Publisher: Altium Limited; PackageDescription: MINI SOIC, .118 x .118 x .034in, 8 Lead, .0256in Pitch; RoHS: Y; PinCount: 8; Code_JEDEC: MO-187-AA; ComponentLink1Description: ADC081C021 Datasheet; ComponentLink1URL: http://www.national.com/ds/AD/ADC081C021.pdf; ComponentLink2Description: ADC081C021 Web Page; ComponentLink2URL: http://www.national.com/pf/AD/ADC081C021.html; ComponentLink3Description: MUA08A Package Page; ComponentLink3URL: http://www.national.com/packaging/folders/mua08a.html
footprint MUA08A_N (TSOP, 8-Leads, Body 3x3mm, Pitch 0.65mm, IPC Medium Density)
footprint MUA08A_L (TSOP, 8-Leads, Body 3x3mm, Pitch 0.65mm, IPC High Density)
footprint MUA08A_M (TSOP, 8-Leads, Body 3x3mm, Pitch 0.65mm, IPC Low Density)
pins: 1 SCL (in), 2 ALERT (oc), 3 ADDR0 (in), 4 VIN (in), 5 VA (power), 6 ADDR1 (in), 7 GND (power), 8 SDA (io)

## ADC081C027CIMK
designator U?
I2C-Compatible, 8-Bit Analog-to-Digital Converter (ADC) with Alert Function; PartNumber: ADC081C027CIMK; Manufacturer: National Semiconductor; CompType: ADC IC; PackageTopMarking: X35C*XTT; PowerWise: N; Published: 4-Dec-2008; DatasheetVersion: Feb-2008; PackageVersion: revD, Jul-2005; PackageReference: MK06A; Publisher: Altium Limited; PackageDescription: Molded TSOT, 2.97 x 1.65 x 0.87mm Body, 6 Lead, 0.95mm Pitch; RoHS: Y; PinCount: 6; DigiKeyPartNumber: ADC081C027CIMKCT-ND; Code_JEDEC: MO-193-AA; Code_IPC: SOT26A-6; ComponentLink1Description: ADC081C027 Datasheet; ComponentLink1URL: http://www.national.com/ds/AD/ADC081C027.pdf; ComponentLink2Description: ADC081C027 Web Page; ComponentLink2URL: http://www.national.com/pf/AD/ADC081C027.html; ComponentLink3Description: MK06A Package Page; ComponentLink3URL: http://www.national.com/packaging/folders/mk06a.html
footprint MK06A_N (SOT23, 6-Leads, Body 3.0x1.7mm, Pitch 0.95mm, Lead Span 2.9mm, IPC Medium Density)
footprint MK06A_L (SOT23, 6-Leads, Body 3.0x1.7mm, Pitch 0.95mm, Lead Span 2.9mm, IPC High Density)
footprint MK06A_M (SOT23, 6-Leads, Body 3.0x1.7mm, Pitch 0.95mm, Lead Span 2.9mm, IPC Low Density)
pins: 1 VA (power), 2 GND (power), 3 VIN (in), 4 ADDR (in), 5 SCL (in), 6 SDA (io)

## ADC081S021CIMF
designator U?
Single Channel, 50 to 200 ksps, 8-Bit A/D Converter; PartNumber: ADC081S021CIMF; Manufacturer: National Semiconductor; CompType: ADC IC; PackageTopMarking: X09C*XTT; PowerWise: Y; Published: 4-Dec-2008; DatasheetVersion: Aug-2005; PackageVersion: revC, Sep-2005; PackageReference: MF06A; Publisher: Altium Limited; PackageDescription: Molded SOT-23, .115 x .063 x .040in Body, 6 Lead, .0375in in Pitch; RoHS: Y; PinCount: 6; DigiKeyPartNumber: ADC081S021CIMFCT-ND; Code_JEDEC: MO-178-AB; Code_IPC: SOT26A-6; ComponentLink1Description: ADC081S021 Datasheet; ComponentLink1URL: http://www.national.com/ds/AD/ADC081S021.pdf; ComponentLink2Description: ADC081S021 Web Page; ComponentLink2URL: http://www.national.com/pf/AD/ADC081S021.html; ComponentLink3Description: MF06A Package Page; ComponentLink3URL: http://www.national.com/packaging/folders/mf06a.html
footprint MF06A_N (SOT23, 6-Leads, Body 2.9x1.6mm, Pitch 0.95mm, Lead Span 2.8mm, IPC Medium Density)
footprint MF06A_L (SOT23, 6-Leads, Body 2.9x1.6mm, Pitch 0.95mm, Lead Span 2.8mm, IPC High Density)
footprint MF06A_M (SOT23, 6-Leads, Body 2.9x1.6mm, Pitch 0.95mm, Lead Span 2.8mm, IPC Low Density)
pins: 1 VA (power), 2 GND (power), 3 VIN (in), 4 SCLK (in), 5 SDATA (out), 6 ~{CS} (in)

## ADC081S021CISD
designator U?
Single Channel, 50 to 200 ksps, 8-Bit A/D Converter; PartNumber: ADC081S021CISD; Manufacturer: National Semiconductor; CompType: ADC IC; PackageTopMarking: XTT*X9C; PowerWise: Y; Published: 4-Dec-2008; DatasheetVersion: Apr-2005; PackageVersion: revA, Nov-2003; PackageReference: SDB06A; Publisher: Altium Limited; PackageDescription: LLP, Plastic, Dual, 2.2 x 2.5 x 0.8mm Body, 6 Lead, 0.65mm Pitch, No Pullback; RoHS: Y; PinCount: 6; DigiKeyPartNumber: ADC081S021CISDCT-ND; ComponentLink1Description: ADC081S021 Datasheet; ComponentLink1URL: http://www.national.com/ds/AD/ADC081S021.pdf; ComponentLink2Description: ADC081S021 Web Page; ComponentLink2URL: http://www.national.com/pf/AD/ADC081S021.html; ComponentLink3Description: SDB06A Package Page; ComponentLink3URL: http://www.national.com/packaging/folders/sdb06a.html
footprint SDB06A (SON, 6-Leads, Body 2.2x2.5mm, Pitch 0.65mm, NSC Recommended (SC-70 Land))
pins: 1 VA (power), 2 GND (power), 3 VIN (in), 4 SCLK (in), 5 SDATA (out), 6 ~{CS} (in), 7 GND (power)

## ADC081S051CIMF
designator U?
Single Channel, 200 to 500 ksps, 8-Bit A/D Converter; PartNumber: ADC081S051CIMF; Manufacturer: National Semiconductor; CompType: ADC IC; PackageTopMarking: X15C*XTT; PowerWise: Y; Published: 4-Dec-2008; DatasheetVersion: Aug-2005; PackageVersion: revC, Sep-2005; PackageReference: MF06A; Publisher: Altium Limited; PackageDescription: Molded SOT-23, .115 x .063 x .040in Body, 6 Lead, .0375in in Pitch; RoHS: Y; PinCount: 6; DigiKeyPartNumber: ADC081S051CIMFCT-ND; Code_JEDEC: MO-178-AB; Code_IPC: SOT26A-6; ComponentLink1Description: ADC081S051 Datasheet; ComponentLink1URL: http://www.national.com/ds/AD/ADC081S051.pdf; ComponentLink2Description: ADC081S051 Web Page; ComponentLink2URL: http://www.national.com/pf/AD/ADC081S051.html; ComponentLink3Description: MF06A Package Page; ComponentLink3URL: http://www.national.com/packaging/folders/mf06a.html
footprint MF06A_N (SOT23, 6-Leads, Body 2.9x1.6mm, Pitch 0.95mm, Lead Span 2.8mm, IPC Medium Density)
footprint MF06A_L (SOT23, 6-Leads, Body 2.9x1.6mm, Pitch 0.95mm, Lead Span 2.8mm, IPC High Density)
footprint MF06A_M (SOT23, 6-Leads, Body 2.9x1.6mm, Pitch 0.95mm, Lead Span 2.8mm, IPC Low Density)
pins: 1 VA (power), 2 GND (power), 3 VIN (in), 4 SCLK (in), 5 SDATA (out), 6 ~{CS} (in)

## ADC081S051CISD
designator U?
Single Channel, 200 to 500 ksps, 8-Bit A/D Converter; PartNumber: ADC081S051CISD; Manufacturer: National Semiconductor; CompType: ADC IC; PackageTopMarking: XTT*X6C; PowerWise: Y; Published: 4-Dec-2008; DatasheetVersion: Apr-2005; PackageVersion: revA, Nov-2003; PackageReference: SDB06A; Publisher: Altium Limited; PackageDescription: LLP, Plastic, Dual, 2.2 x 2.5 x 0.8mm Body, 6 Lead, 0.65mm Pitch, No Pullback; RoHS: Y; PinCount: 6; DigiKeyPartNumber: ADC081S051CISDCT-ND; ComponentLink1Description: ADC081S051 Datasheet; ComponentLink1URL: http://www.national.com/ds/AD/ADC081S051.pdf; ComponentLink2Description: ADC081S051 Web Page; ComponentLink2URL: http://www.national.com/pf/AD/ADC081S051.html; ComponentLink3Description: SDB06A Package Page; ComponentLink3URL: http://www.national.com/packaging/folders/sdb06a.html
footprint SDB06A (SON, 6-Leads, Body 2.2x2.5mm, Pitch 0.65mm, NSC Recommended (SC-70 Land))
pins: 1 VA (power), 2 GND (power), 3 VIN (in), 4 SCLK (in), 5 SDATA (out), 6 ~{CS} (in), 7 GND (power)

## ADC081S101CIMF
designator U?
1MSPS, 8-Bit A/D Converter in SOT-23; PartNumber: ADC081S101CIMF; Manufacturer: National Semiconductor; CompType: ADC IC; PackageTopMarking: X03C*XTT; PowerWise: Y; Published: 4-Dec-2008; DatasheetVersion: Jun-2004; PackageVersion: revC, Sep-2005; PackageReference: MF06A; Publisher: Altium Limited; PackageDescription: Molded SOT-23, .115 x .063 x .040in Body, 6 Lead, .0375in in Pitch; RoHS: Y; PinCount: 6; DigiKeyPartNumber: ADC081S101CIMFCT-ND; Code_JEDEC: MO-178-AB; Code_IPC: SOT26A-6; ComponentLink1Description: ADC081S101 Datasheet; ComponentLink1URL: http://www.national.com/ds/AD/ADC081S101.pdf; ComponentLink2Description: ADC081S101 Web Page; ComponentLink2URL: http://www.national.com/pf/AD/ADC081S101.html; ComponentLink3Description: MF06A Package Page; ComponentLink3URL: http://www.national.com/packaging/folders/mf06a.html
footprint MF06A_N (SOT23, 6-Leads, Body 2.9x1.6mm, Pitch 0.95mm, Lead Span 2.8mm, IPC Medium Density)
footprint MF06A_L (SOT23, 6-Leads, Body 2.9x1.6mm, Pitch 0.95mm, Lead Span 2.8mm, IPC High Density)
footprint MF06A_M (SOT23, 6-Leads, Body 2.9x1.6mm, Pitch 0.95mm, Lead Span 2.8mm, IPC Low Density)
pins: 1 VA (power), 2 GND (power), 3 VIN (in), 4 SCLK (in), 5 SDATA (out), 6 ~{CS} (in)

## ADC081S101CISD
designator U?
1MSPS, 8-Bit A/D Converter in SOT-23; PartNumber: ADC081S101CISD; Manufacturer: National Semiconductor; CompType: ADC IC; PackageTopMarking: XTT*X3C; PowerWise: Y; Published: 4-Dec-2008; DatasheetVersion: Jan-2005; PackageVersion: revA, Nov-2003; PackageReference: SDB06A; Publisher: Altium Limited; PackageDescription: LLP, Plastic, Dual, 2.2 x 2.5 x 0.8mm Body, 6 Lead, 0.65mm Pitch, No Pullback; RoHS: Y; PinCount: 6; DigiKeyPartNumber: ADC081S101CISDCT-ND; ComponentLink1Description: ADC081S101 Datasheet; ComponentLink1URL: http://www.national.com/ds/AD/ADC081S101.pdf; ComponentLink2Description: ADC081S101 Web Page; ComponentLink2URL: http://www.national.com/pf/AD/ADC081S101.html; ComponentLink3Description: SDB06A Package Page; ComponentLink3URL: http://www.national.com/packaging/folders/sdb06a.html
footprint SDB06A (SON, 6-Leads, Body 2.2x2.5mm, Pitch 0.65mm, NSC Recommended (SC-70 Land))
pins: 1 VA (power), 2 GND (power), 3 VIN (in), 4 SCLK (in), 5 SDATA (out), 6 ~{CS} (in), 7 GND (power)

## ADC082S021CIMM
designator U?
2 Channel, 200 KSPS, 8-Bit A/D Converter; PartNumber: ADC082S021CIMM; Manufacturer: National Semiconductor; CompType: ADC IC; PackageTopMarking: ZXTT*X16C; PowerWise: Y; Published: 4-Dec-2008; DatasheetVersion: Apr-2005; PackageVersion: revF, Apr-2008; PackageReference: MUA08A; Publisher: Altium Limited; PackageDescription: MINI SOIC, .118 x .118 x .034in, 8 Lead, .0256in Pitch; RoHS: Y; PinCount: 8; DigiKeyPartNumber: ADC082S021CIMMCT-ND; Code_JEDEC: MO-187-AA; ComponentLink1Description: ADC082S021 Datasheet; ComponentLink1URL: http://www.national.com/ds/AD/ADC082S021.pdf; ComponentLink2Description: ADC082S021 Web Page; ComponentLink2URL: http://www.national.com/pf/AD/ADC082S021.html; ComponentLink3Description: MUA08A Package Page; ComponentLink3URL: http://www.national.com/packaging/folders/mua08a.html
footprint MUA08A_N (TSOP, 8-Leads, Body 3x3mm, Pitch 0.65mm, IPC Medium Density)
footprint MUA08A_L (TSOP, 8-Leads, Body 3x3mm, Pitch 0.65mm, IPC High Density)
footprint MUA08A_M (TSOP, 8-Leads, Body 3x3mm, Pitch 0.65mm, IPC Low Density)
pins: 1 ~{CS} (in), 2 VA (power), 3 GND (power), 4 IN2 (in), 5 IN1 (in), 6 DIN (in), 7 DOUT (out), 8 SCLK (in)

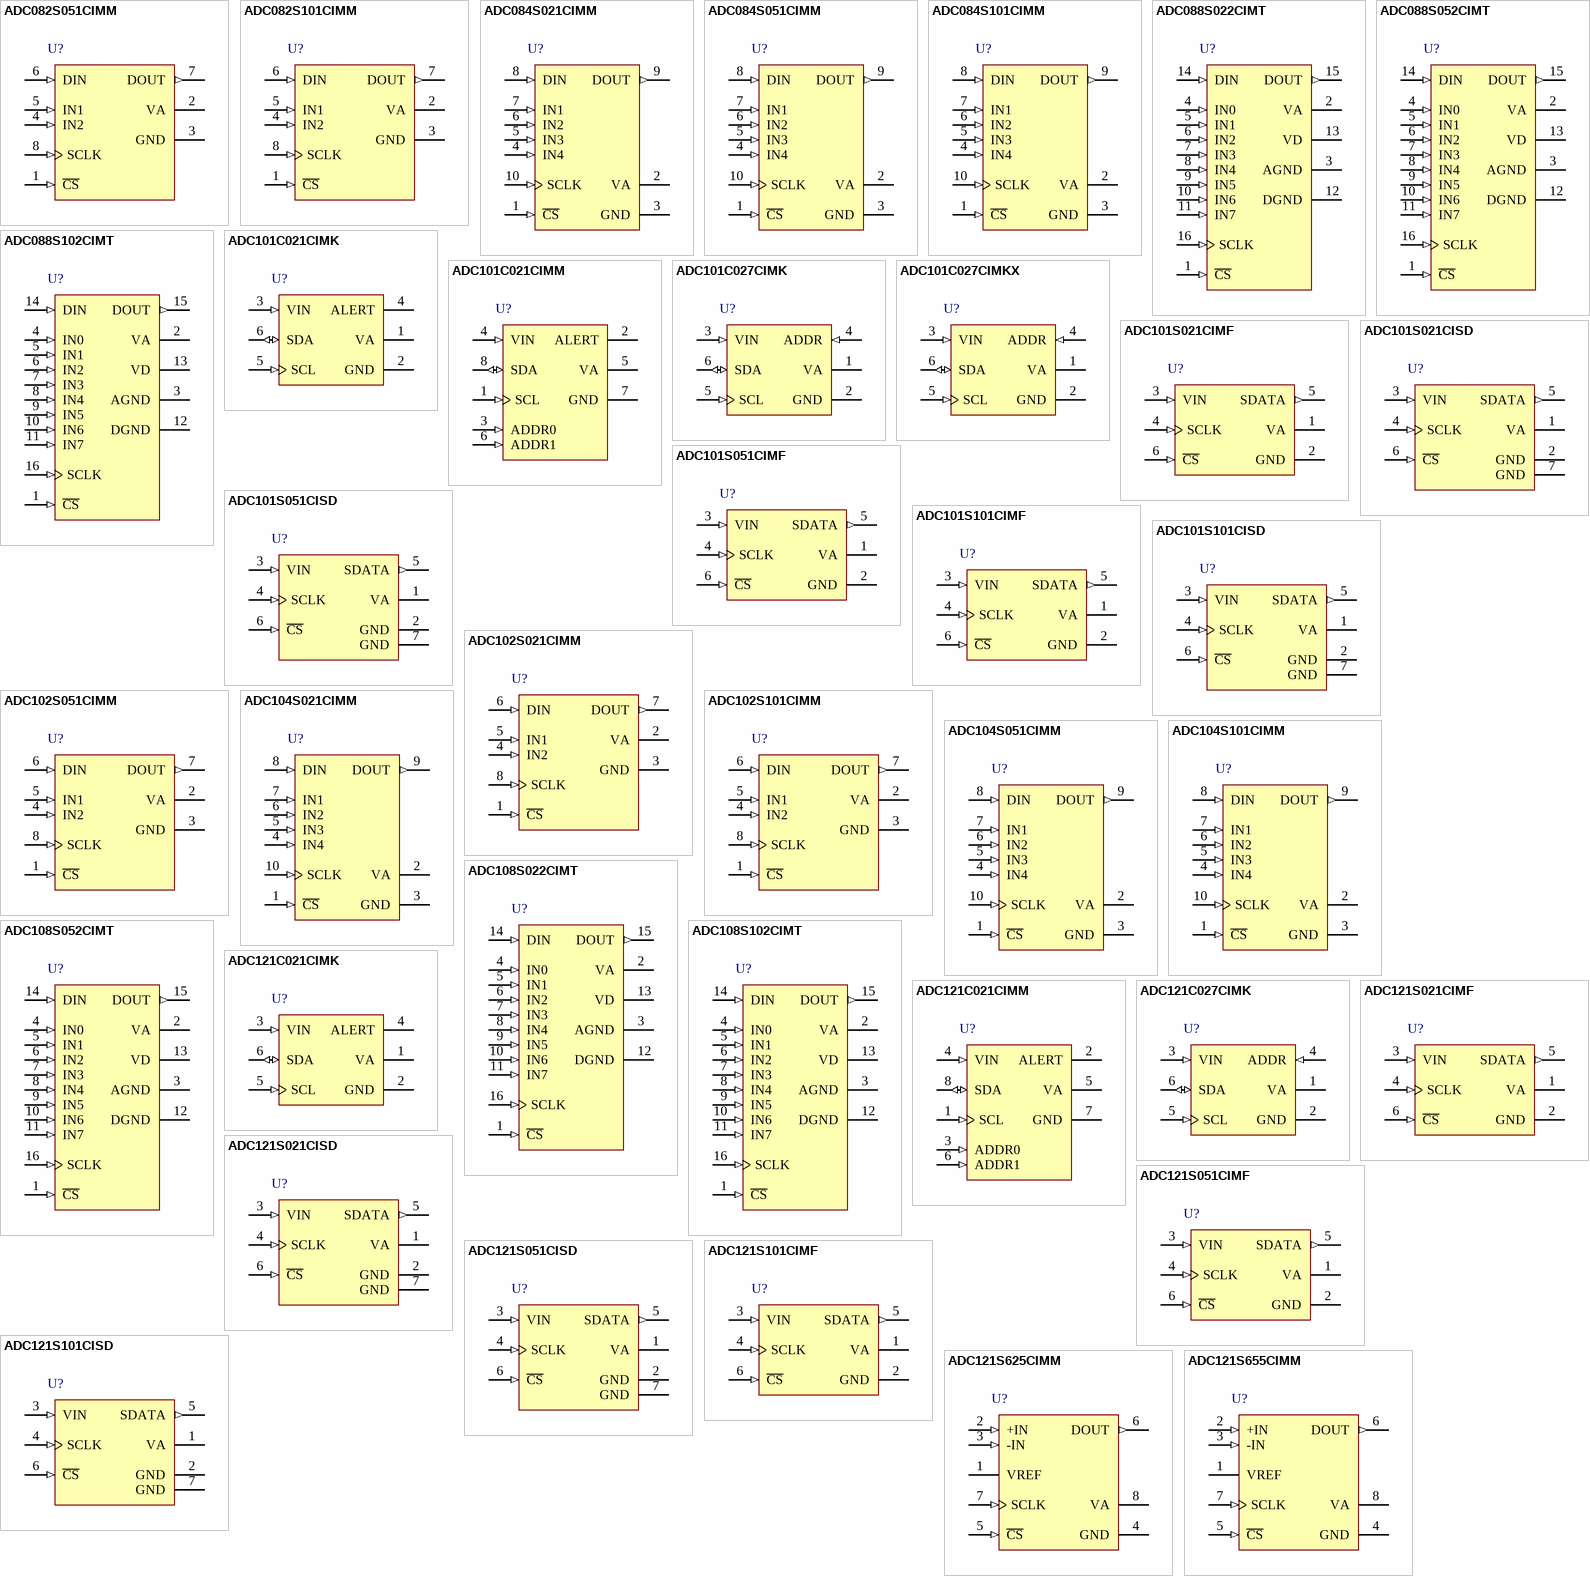
[diagram p9: symbols ADC082S051CIMM to ADC121S655CIMM]

## ADC082S051CIMM
designator U?
2 Channel, 500 kSPS, 8-Bit A/D Converter; PartNumber: ADC082S051CIMM; Manufacturer: National Semiconductor; CompType: ADC IC; PackageTopMarking: ZXTT*X04C; PowerWise: Y; Published: 4-Dec-2008; DatasheetVersion: Apr-2005; PackageVersion: revF, Apr-2008; PackageReference: MUA08A; Publisher: Altium Limited; PackageDescription: MINI SOIC, .118 x .118 x .034in, 8 Lead, .0256in Pitch; RoHS: Y; PinCount: 8; DigiKeyPartNumber: ADC082S051CIMMCT-ND; Code_JEDEC: MO-187-AA; ComponentLink1Description: ADC082S051 Datasheet; ComponentLink1URL: http://www.national.com/ds/AD/ADC082S051.pdf; ComponentLink2Description: ADC082S051 Web Page; ComponentLink2URL: http://www.national.com/pf/AD/ADC082S051.html; ComponentLink3Description: MUA08A Package Page; ComponentLink3URL: http://www.national.com/packaging/folders/mua08a.html
footprint MUA08A_N (TSOP, 8-Leads, Body 3x3mm, Pitch 0.65mm, IPC Medium Density)
footprint MUA08A_L (TSOP, 8-Leads, Body 3x3mm, Pitch 0.65mm, IPC High Density)
footprint MUA08A_M (TSOP, 8-Leads, Body 3x3mm, Pitch 0.65mm, IPC Low Density)
pins: 1 ~{CS} (in), 2 VA (power), 3 GND (power), 4 IN2 (in), 5 IN1 (in), 6 DIN (in), 7 DOUT (out), 8 SCLK (in)

## ADC082S101CIMM
designator U?
2 Channel, 1 MSPS, 8-Bit A/D Converter; PartNumber: ADC082S101CIMM; Manufacturer: National Semiconductor; CompType: ADC IC; PackageTopMarking: ZXTT*X22C; PowerWise: Y; Published: 4-Dec-2008; DatasheetVersion: Apr-2005; PackageVersion: revF, Apr-2008; PackageReference: MUA08A; Publisher: Altium Limited; PackageDescription: MINI SOIC, .118 x .118 x .034in, 8 Lead, .0256in Pitch; RoHS: Y; PinCount: 8; DigiKeyPartNumber: ADC082S101CIMMCT-ND; Code_JEDEC: MO-187-AA; ComponentLink1Description: ADC082S101 Datasheet; ComponentLink1URL: http://www.national.com/ds/AD/ADC082S101.pdf; ComponentLink2Description: ADC082S101 Web Page; ComponentLink2URL: http://www.national.com/pf/AD/ADC082S101.html; ComponentLink3Description: MUA08A Package Page; ComponentLink3URL: http://www.national.com/packaging/folders/mua08a.html
footprint MUA08A_N (TSOP, 8-Leads, Body 3x3mm, Pitch 0.65mm, IPC Medium Density)
footprint MUA08A_L (TSOP, 8-Leads, Body 3x3mm, Pitch 0.65mm, IPC High Density)
footprint MUA08A_M (TSOP, 8-Leads, Body 3x3mm, Pitch 0.65mm, IPC Low Density)
pins: 1 ~{CS} (in), 2 VA (power), 3 GND (power), 4 IN2 (in), 5 IN1 (in), 6 DIN (in), 7 DOUT (out), 8 SCLK (in)

## ADC084S021CIMM
designator U?
4 Channel, 200 KSPS, 8-Bit A/D Converter; PartNumber: ADC084S021CIMM; Manufacturer: National Semiconductor; CompType: ADC IC; PackageTopMarking: ZXTT*X19C; PowerWise: Y; Published: 4-Dec-2008; DatasheetVersion: Apr-2005; PackageVersion: revB, Jul-2003; PackageReference: MUB10A; Publisher: Altium Limited; PackageDescription: Mini-SO, Molded, .118 x .118 x .034in Body, 10 Lead, .0197in Pitch; RoHS: Y; PinCount: 10; DigiKeyPartNumber: ADC084S021CIMMCT-ND; Code_JEDEC: MO-187-BA; ComponentLink1Description: ADC084S021 Datasheet; ComponentLink1URL: http://www.national.com/ds/AD/ADC084S021.pdf; ComponentLink2Description: ADC084S021 Web Page; ComponentLink2URL: http://www.national.com/pf/AD/ADC084S021.html; ComponentLink3Description: MUB10A Package Page; ComponentLink3URL: http://www.national.com/packaging/folders/mub10a.html
footprint MUB10A_N (TSSOP, 10-Leads, Body 3x3mm, Pitch 0.5mm, IPC Medium Density)
footprint MUB10A_L (TSSOP, 10-Leads, Body 3x3mm, Pitch 0.5mm, IPC High Density)
footprint MUB10A_M (TSSOP, 10-Leads, Body 3x3mm, Pitch 0.5mm, IPC Low Density)
pins: 1 ~{CS} (in), 2 VA (power), 3 GND (power), 4 IN4 (in), 5 IN3 (in), 6 IN2 (in), 7 IN1 (in), 8 DIN (in), 9 DOUT (out), 10 SCLK (in)

## ADC084S051CIMM
designator U?
4 Channel, 500 kSPS, 8-Bit A/D Converter; PartNumber: ADC084S051CIMM; Manufacturer: National Semiconductor; CompType: ADC IC; PackageTopMarking: ZXTT*X10C; PowerWise: Y; Published: 4-Dec-2008; DatasheetVersion: Apr-2005; PackageVersion: revB, Jul-2003; PackageReference: MUB10A; Publisher: Altium Limited; PackageDescription: Mini-SO, Molded, .118 x .118 x .034in Body, 10 Lead, .0197in Pitch; RoHS: Y; PinCount: 10; DigiKeyPartNumber: ADC084S051CIMMCT-ND; Code_JEDEC: MO-187-BA; ComponentLink1Description: ADC084S051 Datasheet; ComponentLink1URL: http://www.national.com/ds/AD/ADC084S051.pdf; ComponentLink2Description: ADC084S051 Web Page; ComponentLink2URL: http://www.national.com/pf/AD/ADC084S051.html; ComponentLink3Description: MUB10A Package Page; ComponentLink3URL: http://www.national.com/packaging/folders/mub10a.html
footprint MUB10A_N (TSSOP, 10-Leads, Body 3x3mm, Pitch 0.5mm, IPC Medium Density)
footprint MUB10A_L (TSSOP, 10-Leads, Body 3x3mm, Pitch 0.5mm, IPC High Density)
footprint MUB10A_M (TSSOP, 10-Leads, Body 3x3mm, Pitch 0.5mm, IPC Low Density)
pins: 1 ~{CS} (in), 2 VA (power), 3 GND (power), 4 IN4 (in), 5 IN3 (in), 6 IN2 (in), 7 IN1 (in), 8 DIN (in), 9 DOUT (out), 10 SCLK (in)